# Altium footprint library VS-10BQ030TRPBF (9100687).PcbLib: 1 footprints
Each footprint in its own frame and in the unit in brackets; x right, y up, seen from the top. Pads: shape width x height; smd on the part's side, far side on the other; paste and mask are expansions set on the pad; w line width, h text height; cw(c..) or ccw(c..) is an arc to the next point about the centre after c.
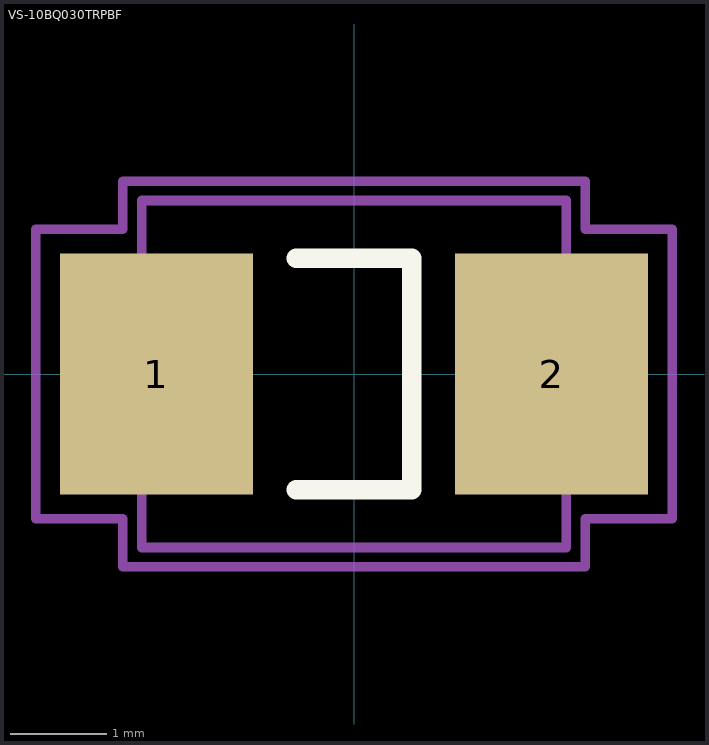
[diagram p0: the footprint, top view; thin cyan lines are the x and y axes]

## VS-10BQ030TRPBF [mm] "VISHAY FORMERLY I.R. - VS-10BQ030TRPBF - DIODE, SCHOTTKY, 1A, 30V"
height 2.4
pads (2):
  rect 2x2.5 smd: 1(-2.05,0) 2(2.05,0)
Top Overlay:
  lines w0.2: -0.6,-1.2 0.6,-1.2 0.6,1.2 -0.6,1.2
Mechanical 13:
  lines w0.1: -2.2,-1.8 -2.2,1.8 2.2,1.8 2.2,-1.8 -2.2,-1.8
Mechanical 15:
  lines w0.1: -3.3,-1.5 -2.4,-1.5 -2.4,-2 2.4,-2 2.4,-1.5 3.3,-1.5 3.3,1.5 2.4,1.5 2.4,2 -2.4,2 -2.4,1.5 -3.3,1.5 -3.3,-1.5
3D body: height 2.4, standoff 0.1, extent -2.2,-1.8 2.2,1.8